# Altium schematic symbol library USB Audio.SchLib: 3 symbols
Pins are listed as number, name and electrical type; pins without a type are passive.

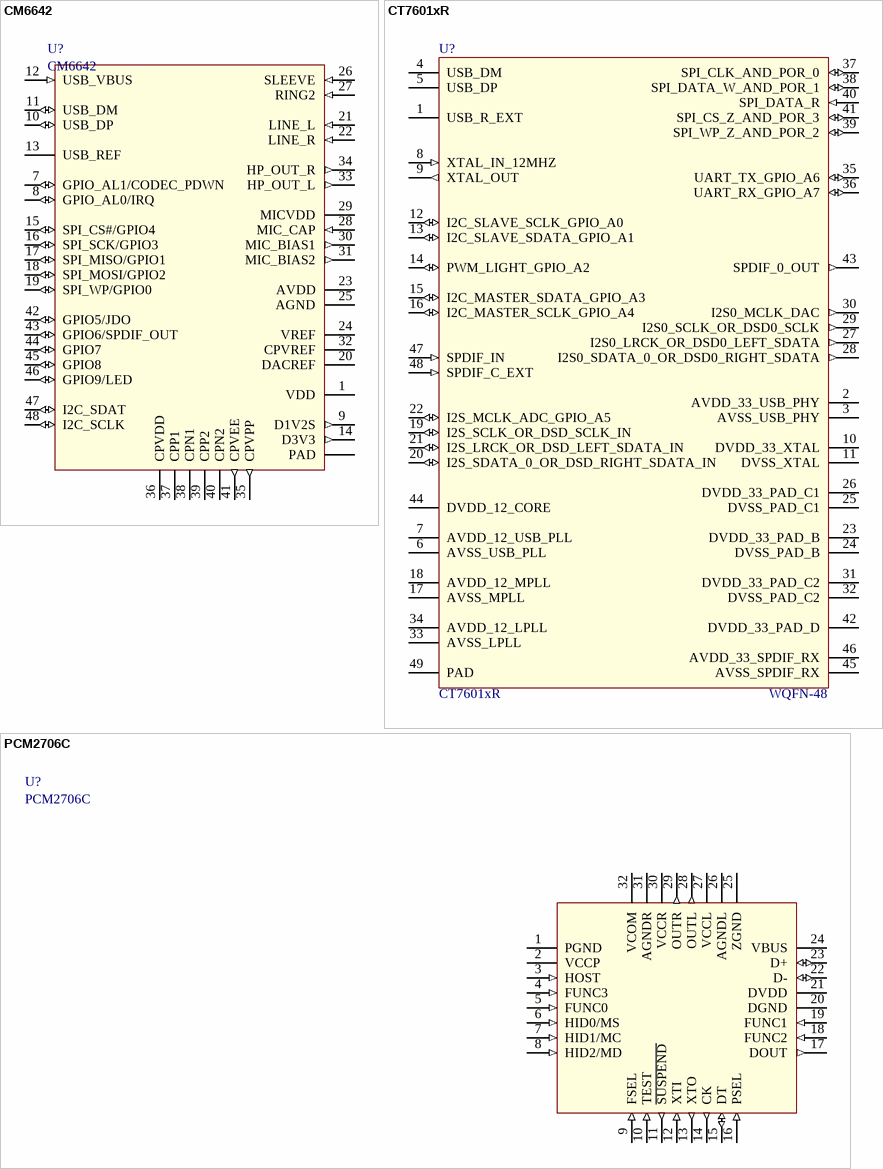
[diagram p0: symbols CM6642 to PCM2706C]

## CM6642
designator U?
USB 2.0 High-Speed Audio Codec
footprint QFN-48-5x6.5 (QFN, 48-Leads, Body 5.00x6.50mm, Pitch 0.40mm, Thermal Pad 3.85x5.35mm, IPC Medium Density)
pins: 1 VDD, 7 GPIO_AL1/CODEC_PDWN (io), 8 GPIO_AL0/IRQ (io), 9 D1V2S (out), 10 USB_DP (io), 11 USB_DM (io), 12 USB_VBUS (in), 13 USB_REF, 14 D3V3 (out), 15 SPI_CS#/GPIO4 (io), 16 SPI_SCK/GPIO3 (io), 17 SPI_MISO/GPIO1 (io), 18 SPI_MOSI/GPIO2 (io), 19 SPI_WP/GPIO0 (io), 20 DACREF, 21 LINE_L (in), 22 LINE_R (in), 23 AVDD (power), 24 VREF, 25 AGND (power), 26 SLEEVE (in), 27 RING2 (in), 28 MIC_CAP (in), 29 MICVDD, 30 MIC_BIAS1 (out), 31 MIC_BIAS2 (out), 32 CPVREF, 33 HP_OUT_L (out), 34 HP_OUT_R (out), 35 CPVPP (out), 36 CPVDD (power), 37 CPP1, 38 CPN1, 39 CPP2, 40 CPN2, 41 CPVEE (out), 42 GPIO5/JDO (io), 43 GPIO6/SPDIF_OUT (io), 44 GPIO7 (io), 45 GPIO8 (io), 46 GPIO9/LED (io), 47 I2C_SDAT (io), 48 I2C_SCLK (io), PAD

## CT7601xR
designator U?  PackageReference: WQFN-48
CT7601 is a single chip audio USB 2.0/1.1 payback and record bridge
footprint WQFN-48-6X6 (Footprint not found)
pins: 1 USB_R_EXT, 2 AVDD_33_USB_PHY (power), 3 AVSS_USB_PHY (power), 4 USB_DM, 5 USB_DP, 6 AVSS_USB_PLL (power), 7 AVDD_12_USB_PLL (power), 8 XTAL_IN_12MHZ (in), 9 XTAL_OUT (out), 10 DVDD_33_XTAL (power), 11 DVSS_XTAL (power), 12 I2C_SLAVE_SCLK_GPIO_A0 (io), 13 I2C_SLAVE_SDATA_GPIO_A1 (io), 14 PWM_LIGHT_GPIO_A2 (io), 15 I2C_MASTER_SDATA_GPIO_A3 (io), 16 I2C_MASTER_SCLK_GPIO_A4 (io), 17 AVSS_MPLL (power), 18 AVDD_12_MPLL (power), 19 I2S_SCLK_OR_DSD_SCLK_IN (io), 20 I2S_SDATA_0_OR_DSD_RIGHT_SDATA_IN (io), 21 I2S_LRCK_OR_DSD_LEFT_SDATA_IN (io), 22 I2S_MCLK_ADC_GPIO_A5 (io) "I2S master clock output", 23 DVDD_33_PAD_B (power), 24 DVSS_PAD_B (power), 25 DVSS_PAD_C1 (power), 26 DVDD_33_PAD_C1 (power), 27 I2S0_LRCK_OR_DSD0_LEFT_SDATA (out), 28 I2S0_SDATA_0_OR_DSD0_RIGHT_SDATA (out), 29 I2S0_SCLK_OR_DSD0_SCLK (out), 30 I2S0_MCLK_DAC (out), 31 DVDD_33_PAD_C2 (power), 32 DVSS_PAD_C2 (power), 33 AVSS_LPLL (power), 34 AVDD_12_LPLL (power), 35 UART_TX_GPIO_A6 (io), 36 UART_RX_GPIO_A7 (io), 37 SPI_CLK_AND_POR_0 (io), 38 SPI_DATA_W_AND_POR_1 (io), 39 SPI_WP_Z_AND_POR_2 (io), 40 SPI_DATA_R (in), 41 SPI_CS_Z_AND_POR_3 (io), 42 DVDD_33_PAD_D (power), 43 SPDIF_0_OUT (out), 44 DVDD_12_CORE (power), 45 AVSS_SPDIF_RX (power), 46 AVDD_33_SPDIF_RX (power), 47 SPDIF_IN (in), 48 SPDIF_C_EXT (in), 49 PAD

## PCM2706C
designator U?
Stereo Full Speed DAC with line-out & S/PDIF output, Bus/Self-powered (Ext. ROM Interface)
footprint STM-LQFP32_N (QFP, 32-Leads, Body 7x7mm, Pitch 0.8mm, IPC Medium Density)
pins: 1 PGND (power) "Analog ground for DAC, OSC, and PLL", 2 VCCP (power) "Analog power supply for DAC, OSC, and PLL", 3 HOST (in) "USB host detection", 4 FUNC3 (in), 5 FUNC0 (in), 6 HID0/MS (in), 7 HID1/MC (in), 8 HID2/MD (in), 9 FSEL (in), 10 TEST (in), 11 ~{SUSPEND} (out), 12 XTI (in), 13 XTO (out), 14 CK (out), 15 DT (io), 16 PSEL (in) "Power source select (low: self-power, high: bus-power)", 17 DOUT (out) "S/PDIF output/I2S data output", 18 FUNC2 (in), 19 FUNC1 (in), 20 DGND (power), 21 DVDD (power) "Digital power supply", 22 D- (io), 23 D+ (io), 24 VBUS (power), 25 ZGND (power), 26 AGNDL (power), 27 VCCL (power), 28 OUTL (out), 29 OUTR (out), 30 VCCR (power), 31 AGNDR (power), 32 VCOM